# Altium footprint library SeniorProject.PcbLib: 19 footprints (part 1 of 2)
Each footprint in its own frame and in the unit in brackets; x right, y up, seen from the top. Pads: shape width x height; smd on the part's side, far side on the other; paste and mask are expansions set on the pad; w line width, h text height; cw(c..) or ccw(c..) is an arc to the next point about the centre after c.
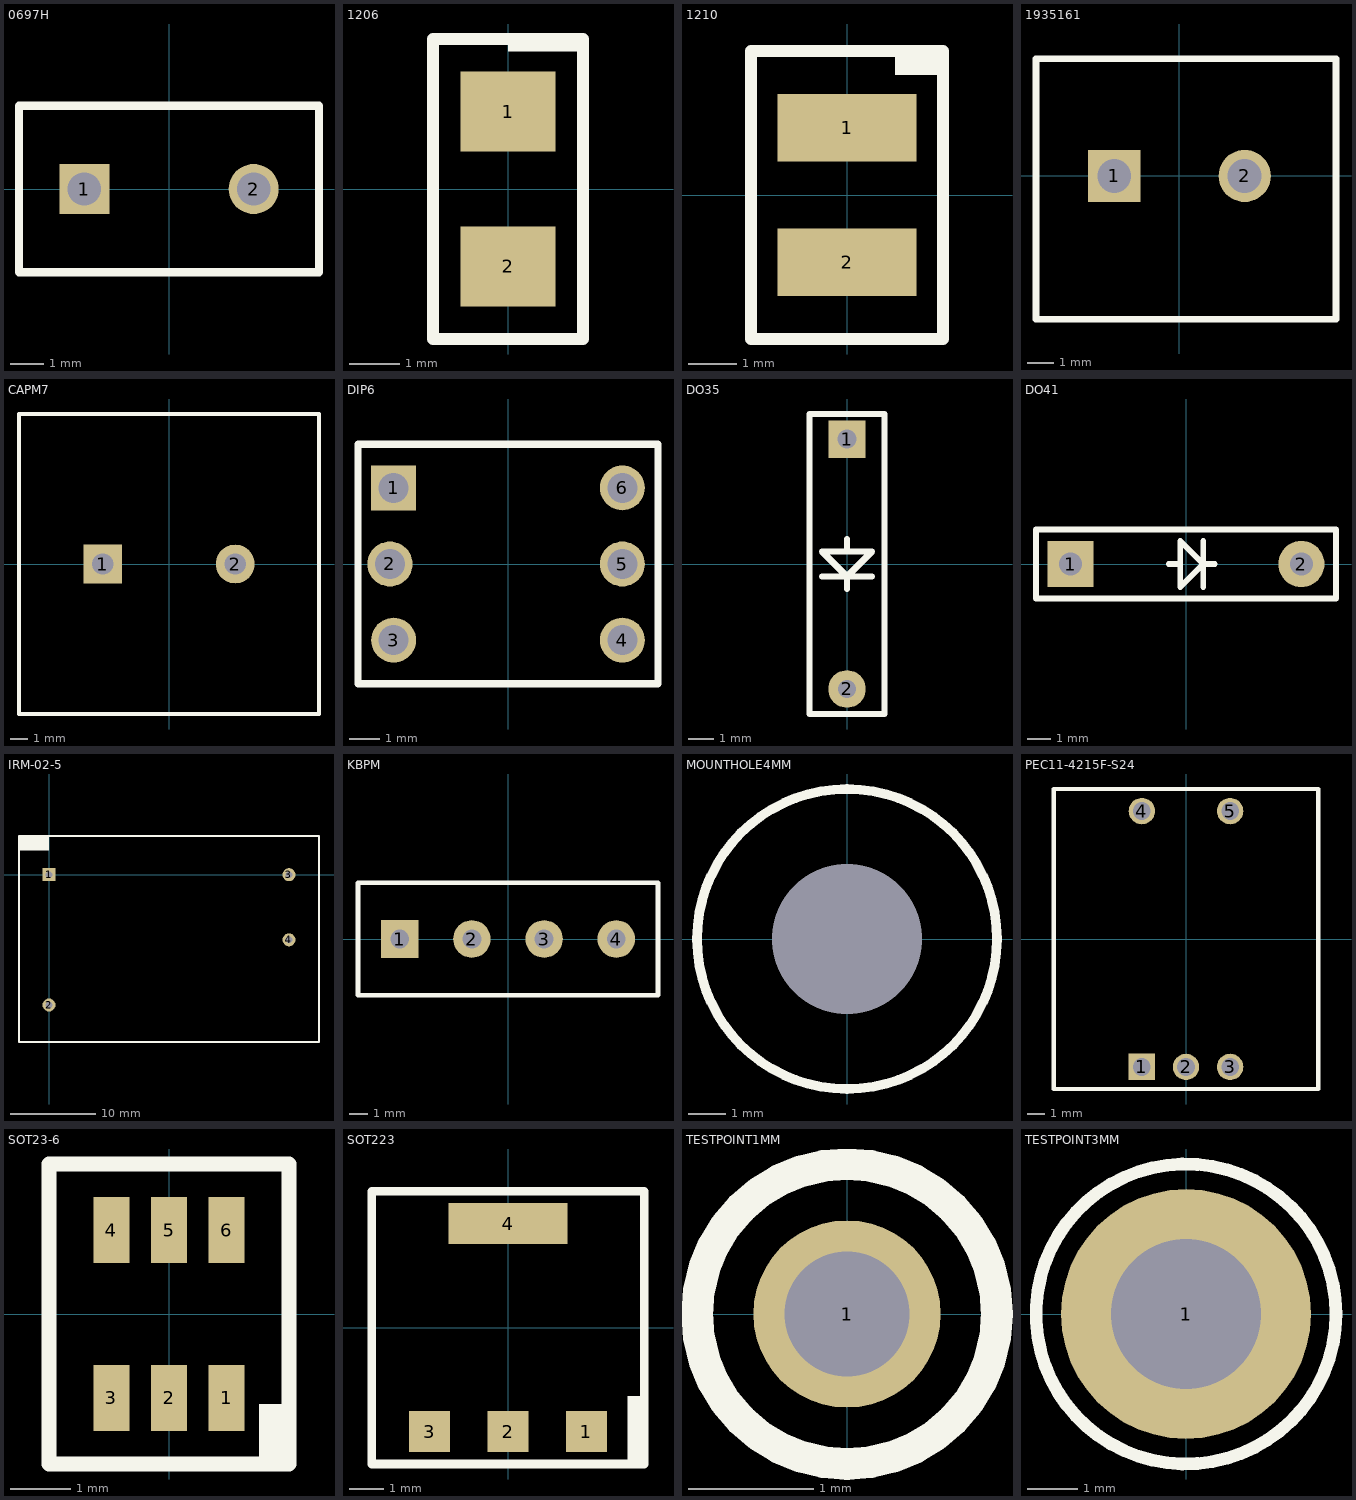
[diagram p0: the footprints below, top view; thin cyan lines are the x and y axes]

## 0697H [mm]
pads (2):
  rect 1.5x1.5 hole 1: 1(-2.54,0)
  round 1.5 hole 1: 2(2.54,0)
Top Overlay:
  lines w0.25: -4.5,-2.5 -4.5,2.5 4.5,2.5 4.5,-2.5 -4.5,-2.5
3D body: height 0.5, standoff -3, extent -2.837,-0.299 -2.24,0.3
3D body: height 0.5, standoff -3, extent 2.243,-0.299 2.84,0.3
3D body: height 8.1, standoff 0.5, extent -4.175,-2 4.175,2

## 1206 [mm]
pads (2):
  rect 1.9x1.6 smd: 1(0,1.55) 2(0,-1.55)
Top Overlay:
  rectangle: 0,2.75 1.5,3
  lines w0.25: -1.5,-3 -1.5,3 1.5,3 1.5,-3 -1.5,-3
3D body: height 1.5, standoff 0, extent -0.8,-1.6 0.8,1.6

## 1210 [mm]
pads (2):
  rect 2.9x1.4 smd: 1(0,1.4) 2(0,-1.4)
Top Overlay:
  region: 2,2.5 2,3 1,3 1,2.5
  lines w0.25: -2,-3 -2,3 2,3 2,-3 -2,-3
3D body: height 2.7, standoff 0, extent -1.35,-1.75 1.35,1.75

## 1935161 [mm]
pads (2):
  rect 2x2 hole 1.3: 1(-2.5,0)
  round 2 hole 1.3: 2(2.5,0)
Top Overlay:
  lines w0.25: -5.5,-5.5 -5.5,4.5 6,4.5 6,-5.5 -5.5,-5.5
3D body "1935161_03.stp": height 11.4, standoff -3.5, extent -5.035,-5 5.535,4

## CAPM7 [mm]
pads (2):
  rect 2.2x2.2 hole 1.2: 1(-3.75,0)
  round 2.2 hole 1.2: 2(3.75,0)
Top Overlay:
  lines w0.25: -8.5,-8.5 -8.5,8.5 8.5,8.5 8.5,-8.5 -8.5,-8.5
3D body "User Library-CE_R300_D650_H1000.STEP": height 26.4, standoff -2.5, extent -8.25,-8.25 8.25,8.25

## DIP6 [mm]
pads (6):
  rect 1.5x1.5 hole 1: 1(-3.81,2.54)
  round 1.5 hole 1: 2(-3.935,0) 3(-3.81,-2.54) 4(3.81,-2.54) 5(3.81,0) 6(3.81,2.54)
Top Overlay:
  lines w0.25: -5,-4 -5,4 5,4 5,-4 -5,-4
3D body: height 0.92, standoff -0.92, extent 0,2.54 0,2.54
3D body: height 0.92, standoff -0.92, extent 4.1,5.08 4.1,5.08
3D body "DIP6.STEP": height 4.4, standoff -2.9, extent -3.935,-3.63 3.935,3.63

## DO35 [mm]
pads (2):
  rect 1.5x1.5 hole 0.75: 1(0,5)
  round 1.5 hole 0.7: 2(0,-5)
Top Overlay:
  lines w0.25: -1,-0.5 1,-0.5 ; 0,-1 0,-0.5 ; 0,0.5 0,1 ; 0,-0.5 -0.5,0 -1,0.5 1,0.5 ; 0,-0.5 0,-0.5 ; 0,-0.5 1,0.5 ; 1,0.5 1,0.5 ; -1.5,-6 -1.5,6 1.5,6 1.5,-6 -1.5,-6
3D body "DO-35 Diode Horizontal.stp": height 2.02, standoff -3.04, extent -0.925,-5.36 0.925,5.36

## DO41 [mm]
pads (2):
  rect 2x2 hole 1: 1(-5,0)
  round 2 hole 1: 2(5,0)
Top Overlay:
  lines w0.25: -0.75,0 -0.25,0 ; 0.75,-1 0.75,1 ; 1.25,0 0.75,0 ; -0.25,1 -0.25,1 ; -0.25,1 0.75,0 ; -0.25,1 -0.25,-1 0.25,-0.5 0.75,0 ; 0.75,0 0.75,0 ; -6.5,-1.5 -6.5,1.5 6.5,1.5 6.5,-1.5 -6.5,-1.5
3D body "do-41.STEP": height 3.01, standoff -1.5, extent -5.4,-1.005 5.4,1.005

## IRM-02-5 [mil] "IRM-02-5"
pads (4):
  rect 60x60 hole 31.5: 1(0,0)
  round 60 hole 31.5: 2(0,-598.43)
  round 60 hole 30: 3(1102.36,0) 4(1102.36,-299.21)
Top Overlay:
  rectangle: -137.8,110.24 0,177.17
  lines w9.84: -137.8,-767.72 -137.8,177.17 1240.16,177.17 1240.16,-767.72 -137.8,-767.72
3D body: height 0, standoff -275.59, extent 1088.64,-312.96 1116.09,-285.46
3D body: height 0, standoff -275.59, extent -13.72,-612.18 13.72,-584.67
3D body: height 0, standoff -275.59, extent 1088.64,-13.75 1116.09,13.75
3D body: height 0, standoff -275.59, extent -13.67,-13.75 13.78,13.75
3D body: height 10, standoff 0, extent 0,0 0,0
3D body: height 10, standoff 0, extent 0,0 0,0
3D body: height 10, standoff 0, extent 0,0 0,0
3D body: height 10, standoff 0, extent 0,-299.21 0,-299.21
3D body: height 590.55, standoff 0, extent -112.2,-736.22 1214.57,137.8

## KBPM [mm]
pads (4):
  rect 2x2 hole 1: 1(-5.775,0)
  round 2 hole 1: 2(-1.925,0) 3(1.925,0) 4(5.775,0)
Top Overlay:
  lines w0.25: -8,-3 -8,3 8,3 8,-3 -8,-3
3D body "SW3dPS-KBPM.STEP": height 11.5, standoff -12.7, extent -7.29,-2.505 7.29,2.505

## MOUNTHOLE4MM [mm]
pads (1):
  round 0 hole 4 unplated: ""(0,0)
Top Overlay:
  circle w0.254: c0,0 r4

## PEC11-4215F-S24 [mm]
pads (5):
  rect 1.5x1.5 hole 1: 1(-2.5,-7.25)
  round 1.5 hole 1: 2(0,-7.25) 3(2.5,-7.25) 4(-2.5,7.25) 5(2.5,7.25)
Top Overlay:
  lines w0.25: -7.5,-8.5 7.5,-8.5 7.5,8.5 -7.5,8.5 -7.5,-8.5
3D body "pec11r-4215k-n0024.stp": height 21.6, standoff -3.6, extent -7,-7.45 7,7.45

## SOT23-6 [mm]
pads (6):
  rect 0.6x1.1 smd: 1(0.96,-1.4) 2(0,-1.4) 3(-0.96,-1.4) 4(-0.96,1.4) 5(0,1.4) 6(0.96,1.4)
Top Overlay:
  rectangle: 1.5,-2.5 2,-1.5
  lines w0.25: -2,-2.5 2,-2.5 2,2.5 -2,2.5 -2,-2.5
3D body "SOT23-6.stp": height -0.42, standoff -1.6, extent -1.5,-1.418 1.5,1.418

## SOT223 [mm]
pads (4):
  rect 1.2x1.2 smd: 1(2.3,-3.05) 2(0,-3.05) 3(-2.3,-3.05)
  rect 3.5x1.2 smd: 4(0,3.05)
Top Overlay:
  rectangle: 3.5,-4 4,-2
  lines w0.25: -4,-4 -4,4 4,4 4,-4 -4,-4
3D body "SOT-223.STEP": height -0.4, standoff -2.1, extent -3.25,-3.445 3.25,3.445
3D body: height 0.25, standoff -7, extent -3.35,3.7 -3.35,3.7

## TESTPOINT1MM [mm]
pads (1):
  round 1.5 hole 1: 1(0,0)
Top Overlay:
  circle w0.254: c0,0 r1.2

## TESTPOINT3MM [mm]
pads (1):
  round 5 hole 3: 1(0,0)
Top Overlay:
  circle w0.254: c0,0 r3